# EAGLE library part JST-XH-6P (library Shield)
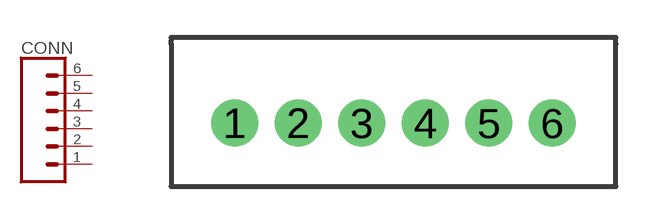
[diagram p2: symbol with the pads of JST-XH-6P; footprint JST-XH-6P]

Designator prefix CONN

## JST-XH-6P  [JST-XH-6P]
1  1  pas
2  2  pas
3  3  pas
4  4  pas
5  5  pas
6  6  pas

## Footprint JST-XH-6P (pad centres in mm)
JST-XH; Plated Through Hole Specifications: Pin count:4 Pin pitch:0.1" Example device(s): JST - XH
drill 1.016 pad 1.88: 1 0,0; 2 2.54,0; 3 5.08,0; 4 7.62,0; 5 10.16,0; 6 12.7,0